# EAGLE library part IT9518 (library CrystalVideo)
ITE IT9518 MFQN 64 pin package COFDM SOC modulator
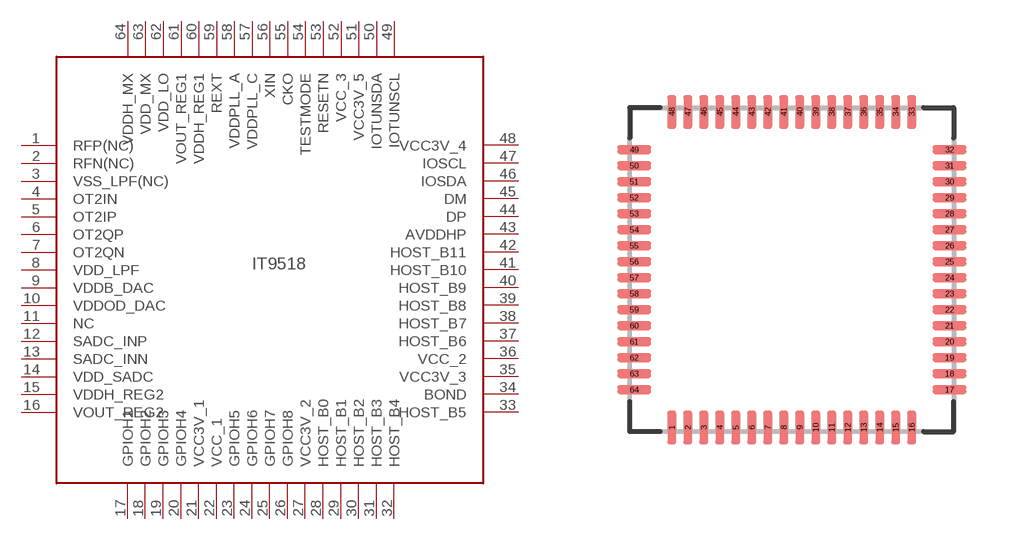
[diagram p0: symbol with the pads of QFN64P40_IT9518; footprint QFN64P40_IT9518]

Designator prefix -

## IT9518  [QFN64P40_IT9518]
1  RFP(NC)
2  RFN(NC)
3  VSS_LPF(NC)
4  OT2IN
5  OT2IP
6  OT2QP
7  OT2QN
8  VDD_LPF
9  VDDB_DAC
10  VDDOD_DAC
11  NC
12  SADC_INP
13  SADC_INN
14  VDD_SADC
15  VDDH_REG2
16  VOUT_REG2
17  GPIOH1
18  GPIOH2
19  GPIOH3
20  GPIOH4
21  VCC3V_1
22  VCC_1
23  GPIOH5
24  GPIOH6
25  GPIOH7
26  GPIOH8
27  VCC3V_2
28  HOST_B0
29  HOST_B1
30  HOST_B2
31  HOST_B3
32  HOST_B4
33  HOST_B5
34  BOND
35  VCC3V_3
36  VCC_2
37  HOST_B6
38  HOST_B7
39  HOST_B8
40  HOST_B9
41  HOST_B10
42  HOST_B11
43  AVDDHP
44  DP
45  DM
46  IOSDA
47  IOSCL
48  VCC3V_4
49  IOTUNSCL
50  IOTUNSDA
51  VCC3V_5
52  VCC_3
53  RESETN
54  TESTMODE
55  CKO
56  XIN
57  VDDPLL_C
58  VDDPLL_A
59  REXT
60  VDDH_REG1
61  VOUT_REG1
62  VDD_LO
63  VDD_MX
64  VDDH_MX

## Footprint QFN64P40_IT9518 (pad centres in mm)
ITE IT9518 Quad Flat No-Lead (QFN), 0.40 mm pitch; square, 16 pin X 16 pin, 8.00 mm L X 8.00 mm W X 0.80 mm H
smd 0.22 x 0.84: 1 -3,-3.945; 2 -2.6,-3.945; 3 -2.2,-3.945; 4 -1.8,-3.945; 5 -1.4,-3.945; 6 -1,-3.945; 7 -0.6,-3.945; 8 -0.2,-3.945; 9 0.2,-3.945; 10 0.6,-3.945; 11 1,-3.945; 12 1.4,-3.945; 13 1.8,-3.945; 14 2.2,-3.945; 15 2.6,-3.945; 16 3,-3.945; 33 3,3.945; 34 2.6,3.945; 35 2.2,3.945; 36 1.8,3.945; 37 1.4,3.945; 38 1,3.945; 39 0.6,3.945; 40 0.2,3.945; 41 -0.2,3.945; 42 -0.6,3.945; 43 -1,3.945; 44 -1.4,3.945; 45 -1.8,3.945; 46 -2.2,3.945; 47 -2.6,3.945; 48 -3,3.945
smd 0.84 x 0.22: 17 3.945,-3; 18 3.945,-2.6; 19 3.945,-2.2; 20 3.945,-1.8; 21 3.945,-1.4; 22 3.945,-1; 23 3.945,-0.6; 24 3.945,-0.2; 25 3.945,0.2; 26 3.945,0.6; 27 3.945,1; 28 3.945,1.4; 29 3.945,1.8; 30 3.945,2.2; 31 3.945,2.6; 32 3.945,3; 49 -3.945,3; 50 -3.945,2.6; 51 -3.945,2.2; 52 -3.945,1.8; 53 -3.945,1.4; 54 -3.945,1; 55 -3.945,0.6; 56 -3.945,0.2; 57 -3.945,-0.2; 58 -3.945,-0.6; 59 -3.945,-1; 60 -3.945,-1.4; 61 -3.945,-1.8; 62 -3.945,-2.2; 63 -3.945,-2.6; 64 -3.945,-3